# EAGLE library part RP20-2405SEW (library uchile_robotics_eagle_lib)
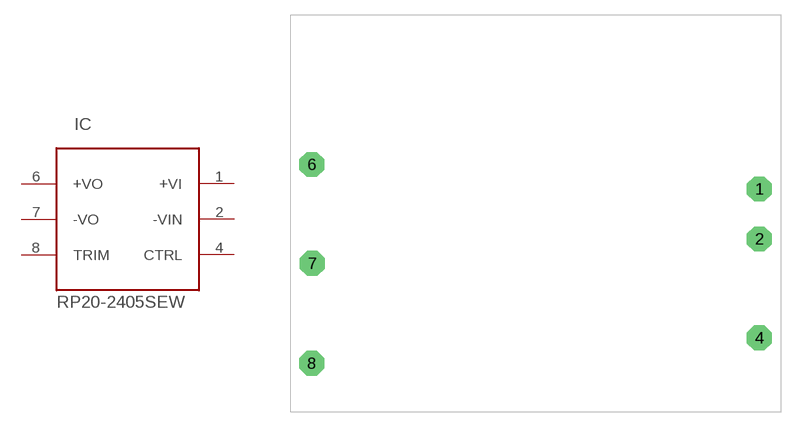
[diagram p12: symbol with the pads of PACKAGE_RP20-2405SEW; footprint PACKAGE_RP20-2405SEW]

Designator prefix IC

## RP20-2405SEW  [PACKAGE_RP20-2405SEW]
1  +VI  in
2  -VIN  in
4  CTRL
6  +VO  out
7  -VO  out
8  TRIM

## Footprint PACKAGE_RP20-2405SEW (pad centres in mm)
drill 1 pad 2.54 octagon: 1 22.85,0; 2 22.85,-5.1; 4 22.85,-15.2; 6 -22.85,2.5; 7 -22.8,-7.6; 8 -22.85,-17.8